# EAGLE library part WHITE_SMD_LED (library White_SMD_LED)
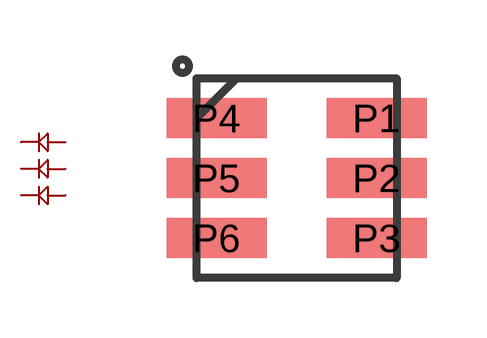
[diagram p0: symbol with the pads of WHITE_SMD_LED; footprint WHITE_SMD_LED]

Designator prefix -

## WHITE_SMD_LED  [WHITE_SMD_LED]
P1  P1
P2  P2
P3  P3
P4  P4
P5  P5
P6  P6

## Footprint WHITE_SMD_LED (pad centres in mm)
smd 2.5 x 1: P1 4.5,4; P2 4.5,2.5; P3 4.5,1; P4 0.5,4; P5 0.5,2.5; P6 0.5,1